# Altium schematic symbol library Conn,Micro-Fit,Hdr,6Pos,Vert,Thru.Schlib: 1 symbol
Pins are listed as number, name and electrical type; pins without a type are passive.

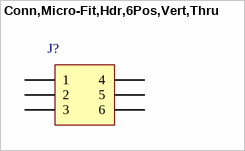
[diagram p0: symbol Conn,Micro-Fit,Hdr,6Pos,Vert,Thru]

## Conn,Micro-Fit,Hdr,6Pos,Vert,Thru
designator J?
pins: 1, 2, 3, 4, 5, 6